# EAGLE library part PINHD-2X10 (library seniorDesign)
PIN HEADER connector for lcd screen (50 mil)
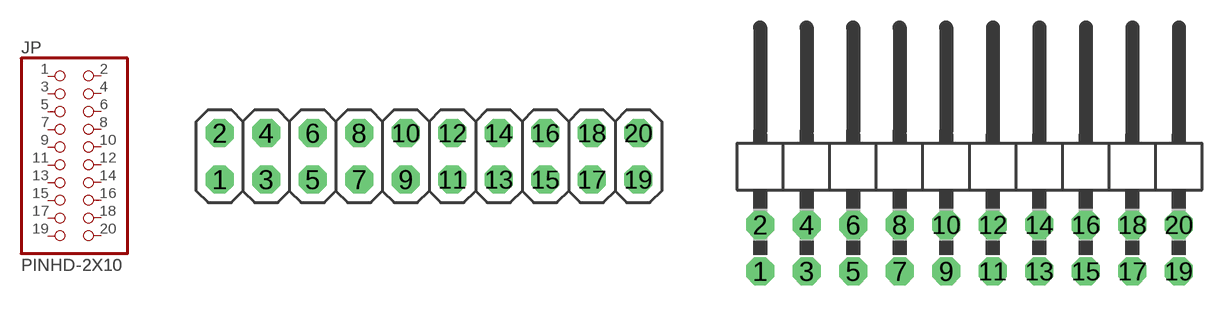
[diagram p3: symbol with the pads of 2X10; footprints 2X10, 2X10/90]

Designator prefix JP

## PINHD-2X10  [2X10]
1  1  pas
2  2  pas
3  3  pas
4  4  pas
5  5  pas
6  6  pas
7  7  pas
8  8  pas
9  9  pas
10  10  pas
11  11  pas
12  12  pas
13  13  pas
14  14  pas
15  15  pas
16  16  pas
17  17  pas
18  18  pas
19  19  pas
20  20  pas

## PINHD-2X10/90  [2X10/90]
Pads as for 2X10

## PINHD-2X10/HALF  [2X10/HALF]
Pads as for 2X10

## Footprint 2X10 (pad centres in mm)
PIN HEADER
drill 1.016 octagon: 1 -11.43,-1.27; 2 -11.43,1.27; 3 -8.89,-1.27; 4 -8.89,1.27; 5 -6.35,-1.27; 6 -6.35,1.27; 7 -3.81,-1.27; 8 -3.81,1.27; 9 -1.27,-1.27; 10 -1.27,1.27; 11 1.27,-1.27; 12 1.27,1.27; 13 3.81,-1.27; 14 3.81,1.27; 15 6.35,-1.27; 16 6.35,1.27; 17 8.89,-1.27; 18 8.89,1.27; 19 11.43,-1.27; 20 11.43,1.27

## Footprint 2X10/90 (pad centres in mm)
PIN HEADER
drill 1.016 octagon: 1 -11.43,-6.35; 2 -11.43,-3.81; 3 -8.89,-6.35; 4 -8.89,-3.81; 5 -6.35,-6.35; 6 -6.35,-3.81; 7 -3.81,-6.35; 8 -3.81,-3.81; 9 -1.27,-6.35; 10 -1.27,-3.81; 11 1.27,-6.35; 12 1.27,-3.81; 13 3.81,-6.35; 14 3.81,-3.81; 15 6.35,-6.35; 16 6.35,-3.81; 17 8.89,-6.35; 18 8.89,-3.81; 19 11.43,-6.35; 20 11.43,-3.81

## Footprint 2X10/HALF (pad centres in mm)
drill 0.55 pad 0.813 square: 1 -5.821,-0.534
drill 0.55 pad 0.813: 2 -5.821,0.736; 3 -4.551,-0.534; 4 -4.551,0.736; 5 -3.281,-0.534; 6 -3.281,0.736; 7 -2.011,-0.534; 8 -2.011,0.736; 9 -0.741,-0.534; 10 -0.741,0.736; 11 0.529,-0.534; 12 0.529,0.736; 13 1.799,-0.534; 14 1.799,0.736; 15 3.069,-0.534; 16 3.069,0.736; 17 4.339,-0.534; 18 4.339,0.736; 19 5.609,-0.534; 20 5.609,0.736